# Altium footprint library E104-BT01_Bluetooth.PcbLib: 2 footprints
Each footprint in its own frame and in the unit in brackets; x right, y up, seen from the top. Pads: shape width x height; smd on the part's side, far side on the other; paste and mask are expansions set on the pad; w line width, h text height; cw(c..) or ccw(c..) is an arc to the next point about the centre after c.
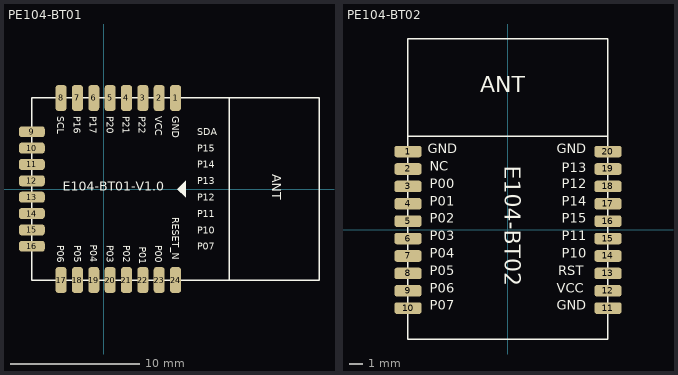
[diagram p0: the footprints below, top view; thin cyan lines are the x and y axes]

## PE104-BT01 [mm] "22.3mm*14.14mm*2.4mm-S"
pads (24):
  rrect50% 0.85x2 smd: 1(5.579,7.07) 2(4.309,7.07) 3(3.039,7.07) 4(1.769,7.07) 5(0.499,7.07) 6(-0.771,7.07) 7(-2.041,7.07) 8(-3.311,7.07) 17(-3.311,-7.07) 18(-2.041,-7.07) 19(-0.771,-7.07) 20(0.499,-7.07) 21(1.769,-7.07) 22(3.039,-7.07) 23(4.309,-7.07) 24(5.579,-7.07)
  rrect50% 2x0.85 smd: 9(-5.579,4.445) 10(-5.579,3.175) 11(-5.579,1.905) 12(-5.579,0.635) 13(-5.579,-0.635) 14(-5.579,-1.905) 15(-5.579,-3.175) 16(-5.579,-4.445)
Top Overlay:
  region: 6.359,0.626 5.724,-0.009 6.359,-0.644
  lines w0.1: 9.735,-7.07 9.735,7.07 ; -5.579,-7.07 -5.579,7.07 16.72,7.07 16.72,-7.07 -5.579,-7.07
  text "ANT" at 13.081,1.143 h0.7
  text "GND" at 5.307,5.668 h0.55
  text "VCC" at 3.995,5.668 h0.55
  text "P22" at 2.739,5.668 h0.55
  text "P21" at 1.478,5.668 h0.55
  text "P20" at 0.217,5.668 h0.55
  text "P17" at -1.07,5.668 h0.55
  text "P16" at -2.331,5.668 h0.55
  text "SCL" at -3.598,5.668 h0.55
  text "P06" at -3.598,-4.365 h0.55
  text "P05" at -2.306,-4.365 h0.55
  text "P04" at -1.044,-4.313 h0.55
  text "P03" at 0.217,-4.365 h0.55
  text "P02" at 1.504,-4.365 h0.55
  text "P01" at 2.765,-4.496 h0.55
  text "P00" at 4.021,-4.365 h0.55
  text "RESET_N" at 5.307,-2.207 h0.55
  text "SDA" at 7.273,4.157 h0.55
  text "P15" at 7.273,2.912 h0.55
  text "P14" at 7.273,1.642 h0.55
  text "P13" at 7.273,0.372 h0.55
  text "P12" at 7.273,-0.898 h0.55
  text "P11" at 7.273,-2.193 h0.55
  text "P10" at 7.273,-3.463 h0.55
  text "P07" at 7.273,-4.733 h0.55
  text "E104-BT01-V1.0" at -3.175,-0.127 h0.7

## PE104-BT02 [mm] "22mm*14.70mm*2.7mm-S"
pads (20):
  rrect50% 2x0.85 smd: 1(-7.3,5.715) 2(-7.3,4.445) 3(-7.3,3.175) 4(-7.3,1.905) 5(-7.3,0.635) 6(-7.3,-0.635) 7(-7.3,-1.905) 8(-7.3,-3.175) 9(-7.3,-4.445) 10(-7.3,-5.715) 11(7.3,-5.715) 12(7.3,-4.445) 13(7.3,-3.175) 14(7.3,-1.905) 15(7.3,-0.635) 16(7.3,0.635) 17(7.3,1.905) 18(7.3,3.175) 19(7.3,4.445) 20(7.3,5.715)
Top Overlay:
  lines w0.1: -7.325,6.823 7.275,6.823 ; -7.325,-7.965 7.275,-7.965 7.275,13.935 -7.325,13.935 -7.325,-7.965
  text "ANT" at -2.032,9.652 h2
  text "E104-BT02" at -0.635,4.699 h2
  text "GND" at 3.556,-6.096 h1.2
  text "VCC" at 3.556,-4.826 h1.2
  text "RST" at 3.683,-3.556 h1.2
  text "P10" at 3.937,-2.286 h1.2
  text "P11" at 3.937,-1.016 h1.2
  text "GND" at 3.556,5.334 h1.2
  text "P13" at 3.937,3.937 h1.2
  text "P12" at 3.937,2.794 h1.2
  text "P14" at 3.937,1.524 h1.2
  text "P15" at 3.937,0.254 h1.2
  text "P02" at -5.715,0.254 h1.2
  text "P01" at -5.715,1.524 h1.2
  text "P00" at -5.715,2.794 h1.2
  text "NC" at -5.715,4.064 h1.2
  text "GND" at -5.842,5.334 h1.2
  text "P03" at -5.715,-1.016 h1.2
  text "P04" at -5.715,-2.286 h1.2
  text "P05" at -5.715,-3.556 h1.2
  text "P06" at -5.715,-4.826 h1.2
  text "P07" at -5.715,-6.096 h1.2